# EAGLE library part DRV884 (library lippa)
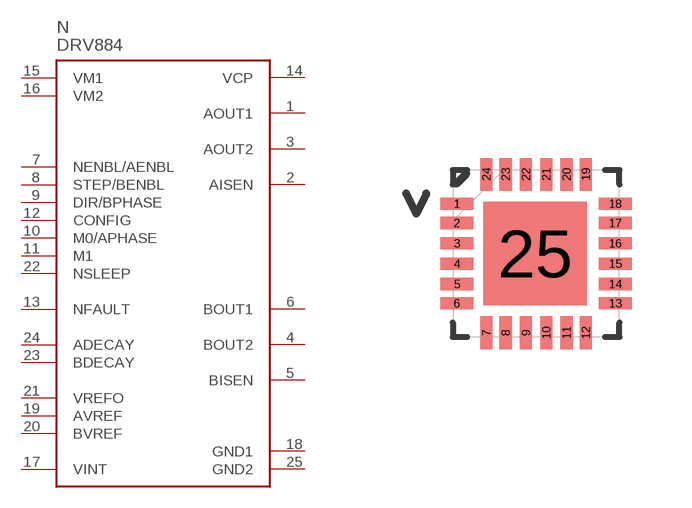
[diagram p0: symbol with the pads of QFN50P400X400X100-25N; footprint QFN50P400X400X100-25N]

Designator prefix N

## DRV884  [QFN50P400X400X100-25N]
1  AOUT1
2  AISEN
3  AOUT2
4  BOUT2
5  BISEN
6  BOUT1
7  NENBL/AENBL
8  STEP/BENBL
9  DIR/BPHASE
10  M0/APHASE
11  M1
12  CONFIG
13  NFAULT
14  VCP
15  VM1
16  VM2
17  VINT
18  GND1
19  AVREF
20  BVREF
21  VREFO
22  NSLEEP
23  BDECAY
24  ADECAY
25  GND2

## Footprint QFN50P400X400X100-25N (pad centres in mm)
smd 0.813 x 0.305: 1 -1.981,1.245; 2 -1.981,0.762; 3 -1.981,0.254; 4 -1.981,-0.254; 5 -1.981,-0.762; 6 -1.981,-1.245; 13 1.981,-1.245; 14 1.981,-0.762; 15 1.981,-0.254; 16 1.981,0.254; 17 1.981,0.762; 18 1.981,1.245
smd 0.305 x 0.813: 7 -1.245,-1.981; 8 -0.762,-1.981; 9 -0.254,-1.981; 10 0.254,-1.981; 11 0.762,-1.981; 12 1.245,-1.981; 19 1.245,1.981; 20 0.762,1.981; 21 0.254,1.981; 22 -0.254,1.981; 23 -0.762,1.981; 24 -1.245,1.981
smd 2.591 x 2.591: 25 -0.025,0